# Altium schematic symbol library passive_components.SchLib: 2 symbols
Pins are listed as number, name and electrical type; pins without a type are passive.

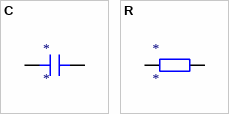
[diagram p0: symbols C to R]

## C
designator *
pins: 1, 2 28

## R
designator *
pins: 1 25, 2 26